# EAGLE library part 10PIN_ISP (library pepin)
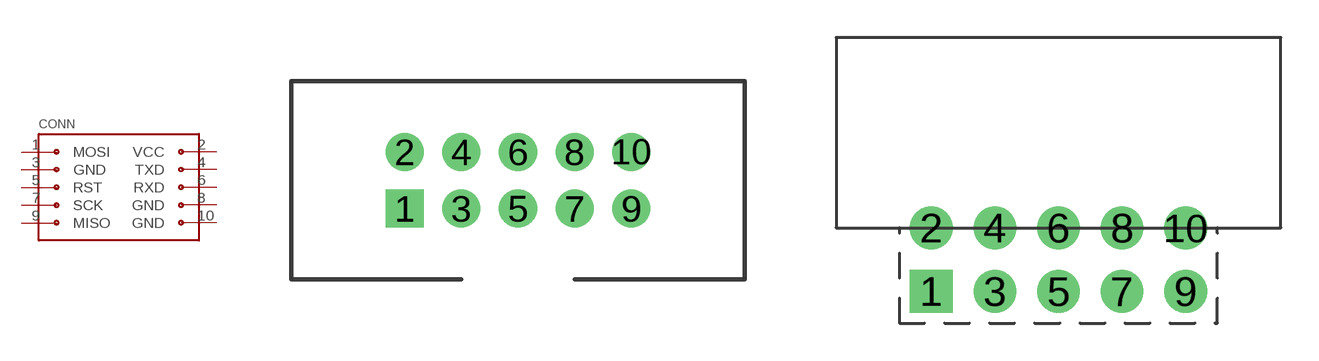
[diagram p15: symbol with the pads of 10PIN_ISP; footprints 10PIN_ISP, 10PIN_ISP_RT]

Designator prefix CONN

## 10PIN_ISP  [10PIN_ISP]
1  MOSI
2  VCC
3  GND
4  TXD
5  RST
6  RXD
7  SCK
8  GND
9  MISO
10  GND

## 10PIN_ISP10PIN_ISP_RT  [10PIN_ISP_RT]
Pads as for 10PIN_ISP

## 10PIN_ISPTC2050  [TC2050-IDC]
1  MOSI
2  VCC
3  GND
4  TXD
5  RST
6  RXD
7  SCK
8  GND
9  MISO
10  GND
L5  RST
L6  RXD

## Footprint 10PIN_ISP (pad centres in mm)
drill 1.14 square: 1 -5.08,-1.27
drill 1.14: 2 -5.08,1.27; 3 -2.54,-1.27; 4 -2.54,1.27; 5 0,-1.27; 6 0,1.27; 7 2.54,-1.27; 8 2.54,1.27; 9 5.08,-1.27; 10 5.08,1.27

## Footprint 10PIN_ISP_RT (pad centres in mm)
drill 1.14 square: 1 -5.08,-1.27
drill 1.14: 2 -5.08,1.27; 3 -2.54,-1.27; 4 -2.54,1.27; 5 0,-1.27; 6 0,1.27; 7 2.54,-1.27; 8 2.54,1.27; 9 5.08,-1.27; 10 5.08,1.27

## Footprint TC2050-IDC (pad centres in mm)
smd 0.787 x 0.787: 1 1.27,-0.635; 2 2.54,-0.635; 3 3.81,-0.635; 4 5.08,-0.635; 5 6.35,-0.635; 6 6.35,0.635; 7 5.08,0.635; 8 3.81,0.635; 9 2.54,0.635; 10 1.27,0.635
drill 0.991: L5 7.62,-1.016; L6 7.62,1.016
hole 0.991 at 0,0
hole 2.375 at 5.715,2.54
hole 2.375 at 0,2.54
hole 2.375 at 0,-2.54
hole 2.375 at 5.715,-2.54